# EAGLE library part DSPIC33EP512MU810-X_BG (library dspic33ep)
dsPIC33EP512MU810-X_BG XBGA121 10x10
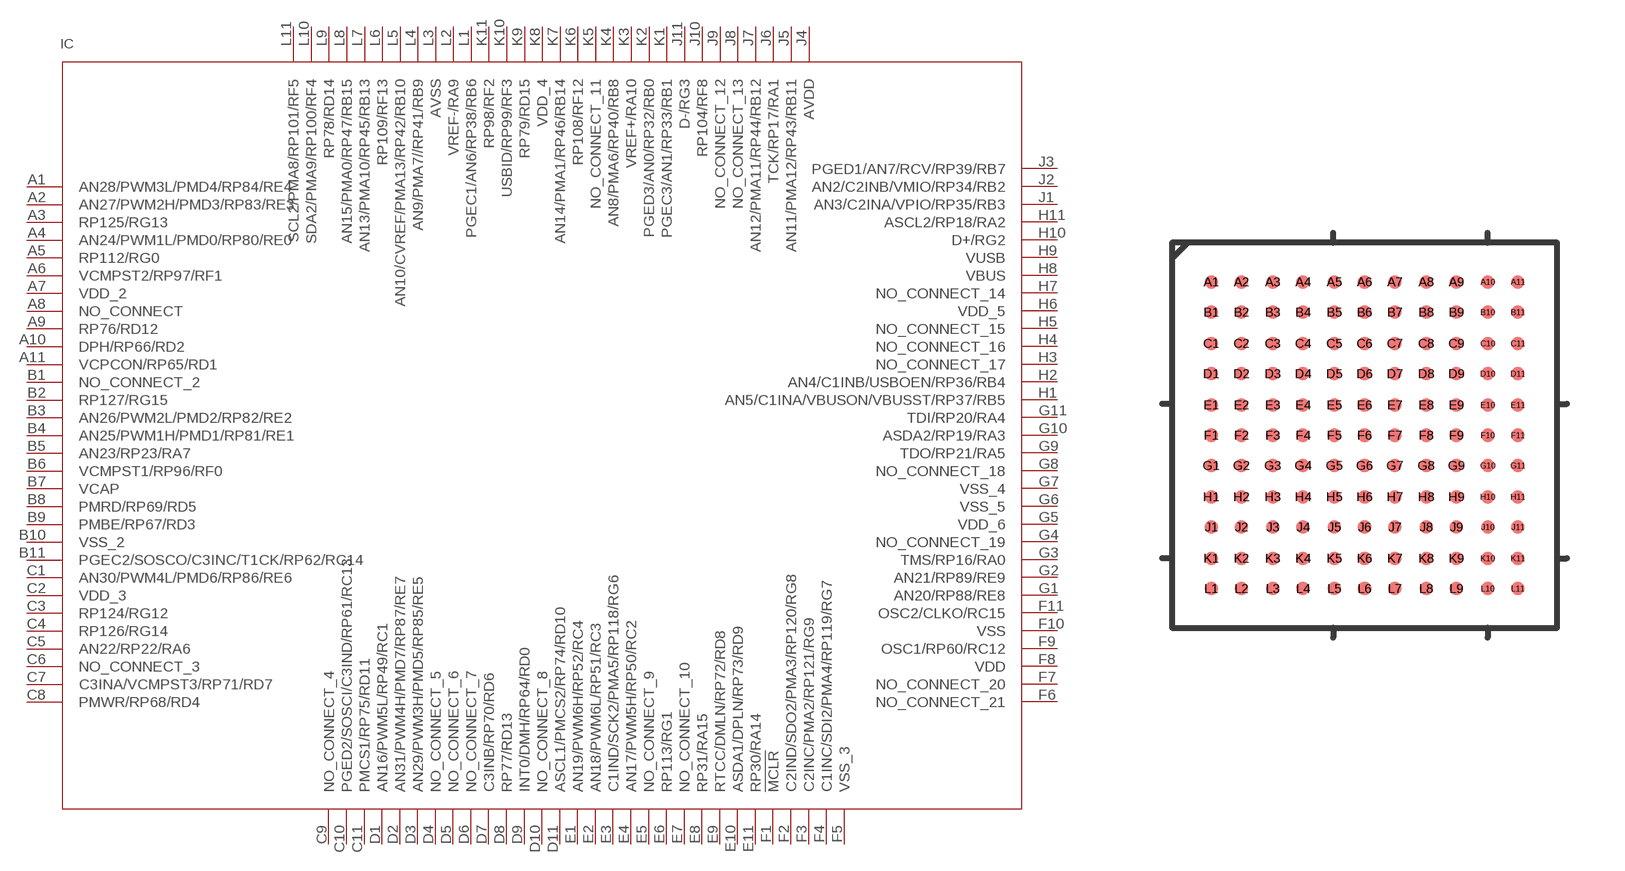
[diagram p7: symbol with the pads of XBGA121_10X10MC; footprint XBGA121_10X10MC]

Designator prefix IC

## DSPIC33EP512MU810-X_BG  [XBGA121_10X10MC]
A1  AN28/PWM3L/PMD4/RP84/RE4  pas
A2  AN27/PWM2H/PMD3/RP83/RE3  pas
A3  RP125/RG13  pas
A4  AN24/PWM1L/PMD0/RP80/RE0  pas
A5  RP112/RG0  pas
A6  VCMPST2/RP97/RF1  pas
A7  VDD_2  pwr
A8  NO_CONNECT  nc
A9  RP76/RD12  pas
A10  DPH/RP66/RD2  pas
A11  VCPCON/RP65/RD1  pas
B1  NO_CONNECT_2  nc
B2  RP127/RG15  pas
B3  AN26/PWM2L/PMD2/RP82/RE2  pas
B4  AN25/PWM1H/PMD1/RP81/RE1  pas
B5  AN23/RP23/RA7  pas
B6  VCMPST1/RP96/RF0  pas
B7  VCAP  pwr
B8  PMRD/RP69/RD5  pas
B9  PMBE/RP67/RD3  pas
B10  VSS_2  pwr
B11  PGEC2/SOSCO/C3INC/T1CK/RP62/RC14  pas
C1  AN30/PWM4L/PMD6/RP86/RE6  pas
C2  VDD_3  pwr
C3  RP124/RG12  pas
C4  RP126/RG14  pas
C5  AN22/RP22/RA6  pas
C6  NO_CONNECT_3  nc
C7  C3INA/VCMPST3/RP71/RD7  pas
C8  PMWR/RP68/RD4  pas
C9  NO_CONNECT_4  nc
C10  PGED2/SOSCI/C3IND/RP61/RC13  pas
C11  PMCS1/RP75/RD11  pas
D1  AN16/PWM5L/RP49/RC1  pas
D2  AN31/PWM4H/PMD7/RP87/RE7  pas
D3  AN29/PWM3H/PMD5/RP85/RE5  pas
D4  NO_CONNECT_5  nc
D5  NO_CONNECT_6  nc
D6  NO_CONNECT_7  nc
D7  C3INB/RP70/RD6  pas
D8  RP77/RD13  pas
D9  INT0/DMH/RP64/RD0  pas
D10  NO_CONNECT_8  nc
D11  ASCL1/PMCS2/RP74/RD10  pas
E1  AN19/PWM6H/RP52/RC4  pas
E2  AN18/PWM6L/RP51/RC3  pas
E3  C1IND/SCK2/PMA5/RP118/RG6  pas
E4  AN17/PWM5H/RP50/RC2  pas
E5  NO_CONNECT_9  nc
E6  RP113/RG1  pas
E7  NO_CONNECT_10  nc
E8  RP31/RA15  pas
E9  RTCC/DMLN/RP72/RD8  pas
E10  ASDA1/DPLN/RP73/RD9  pas
E11  RP30/RA14  pas
F1  !MCLR  in
F2  C2IND/SDO2/PMA3/RP120/RG8  pas
F3  C2INC/PMA2/RP121/RG9  pas
F4  C1INC/SDI2/PMA4/RP119/RG7  pas
F5  VSS_3  pwr
F6  NO_CONNECT_21  nc
F7  NO_CONNECT_20  nc
F8  VDD  pwr
F9  OSC1/RP60/RC12  pas
F10  VSS  pwr
F11  OSC2/CLKO/RC15  pas
G1  AN20/RP88/RE8  pas
G2  AN21/RP89/RE9  pas
G3  TMS/RP16/RA0  pas
G4  NO_CONNECT_19  nc
G5  VDD_6  pwr
G6  VSS_5  pwr
G7  VSS_4  pwr
G8  NO_CONNECT_18  nc
G9  TDO/RP21/RA5  pas
G10  ASDA2/RP19/RA3  pas
G11  TDI/RP20/RA4  pas
H1  AN5/C1INA/VBUSON/VBUSST/RP37/RB5  pas
H2  AN4/C1INB/USBOEN/RP36/RB4  pas
H3  NO_CONNECT_17  nc
H4  NO_CONNECT_16  nc
H5  NO_CONNECT_15  nc
H6  VDD_5  pwr
H7  NO_CONNECT_14  nc
H8  VBUS  pwr
H9  VUSB  pwr
H10  D+/RG2  pas
H11  ASCL2/RP18/RA2  pas
J1  AN3/C2INA/VPIO/RP35/RB3  pas
J2  AN2/C2INB/VMIO/RP34/RB2  pas
J3  PGED1/AN7/RCV/RP39/RB7  pas
J4  AVDD  pwr
J5  AN11/PMA12/RP43/RB11  pas
J6  TCK/RP17/RA1  pas
J7  AN12/PMA11/RP44/RB12  pas
J8  NO_CONNECT_13  nc
J9  NO_CONNECT_12  nc
J10  RP104/RF8  pas
J11  D-/RG3  pas
K1  PGEC3/AN1/RP33/RB1  pas
K2  PGED3/AN0/RP32/RB0  pas
K3  VREF+/RA10  pas
K4  AN8/PMA6/RP40/RB8  pas
K5  NO_CONNECT_11  nc
K6  RP108/RF12  pas
K7  AN14/PMA1/RP46/RB14  pas
K8  VDD_4  pwr
K9  RP79/RD15  pas
K10  USBID/RP99/RF3  pas
K11  RP98/RF2  pas
L1  PGEC1/AN6/RP38/RB6  pas
L2  VREF-/RA9  pas
L3  AVSS  pwr
L4  AN9/PMA7//RP41/RB9  pas
L5  AN10/CVREF/PMA13/RP42/RB10  pas
L6  RP109/RF13  pas
L7  AN13/PMA10/RP45/RB13  pas
L8  AN15/PMA0/RP47/RB15  pas
L9  RP78/RD14  pas
L10  SDA2/PMA9/RP100/RF4  pas
L11  SCL2/PMA8/RP101/RF5  pas

## Footprint XBGA121_10X10MC (pad centres in mm)
XBGA121 10X10
smd 0.356 x 0.356: A1 -3.988,3.988; A2 -3.2,3.988; A3 -2.388,3.988; A4 -1.6,3.988; A5 -0.787,3.988; A6 0,3.988; A7 0.787,3.988; A8 1.6,3.988; A9 2.388,3.988; A10 3.2,3.988; A11 3.988,3.988; B1 -3.988,3.2; B2 -3.2,3.2; B3 -2.388,3.2; B4 -1.6,3.2; B5 -0.787,3.2; B6 0,3.2; B7 0.787,3.2; B8 1.6,3.2; B9 2.388,3.2; B10 3.2,3.2; B11 3.988,3.2; C1 -3.988,2.388; C2 -3.2,2.388; C3 -2.388,2.388; C4 -1.6,2.388; C5 -0.787,2.388; C6 0,2.388; C7 0.787,2.388; C8 1.6,2.388; C9 2.388,2.388; C10 3.2,2.388; C11 3.988,2.388; D1 -3.988,1.6; D2 -3.2,1.6; D3 -2.388,1.6; D4 -1.6,1.6; D5 -0.787,1.6; D6 0,1.6; D7 0.787,1.6; D8 1.6,1.6; D9 2.388,1.6; D10 3.2,1.6; D11 3.988,1.6; E1 -3.988,0.787; E2 -3.2,0.787; E3 -2.388,0.787; E4 -1.6,0.787; E5 -0.787,0.787; E6 0,0.787; E7 0.787,0.787; E8 1.6,0.787; E9 2.388,0.787; E10 3.2,0.787; E11 3.988,0.787; F1 -3.988,0; F2 -3.2,0; F3 -2.388,0; F4 -1.6,0; F5 -0.787,0; F6 0,0; F7 0.787,0; F8 1.6,0; F9 2.388,0; F10 3.2,0; F11 3.988,0; G1 -3.988,-0.787; G2 -3.2,-0.787; G3 -2.388,-0.787; G4 -1.6,-0.787; G5 -0.787,-0.787; G6 0,-0.787; G7 0.787,-0.787; G8 1.6,-0.787; G9 2.388,-0.787; G10 3.2,-0.787; G11 3.988,-0.787; H1 -3.988,-1.6; H2 -3.2,-1.6; H3 -2.388,-1.6; H4 -1.6,-1.6; H5 -0.787,-1.6; H6 0,-1.6; H7 0.787,-1.6; H8 1.6,-1.6; H9 2.388,-1.6; H10 3.2,-1.6; H11 3.988,-1.6; J1 -3.988,-2.388; J2 -3.2,-2.388; J3 -2.388,-2.388; J4 -1.6,-2.388; J5 -0.787,-2.388; J6 0,-2.388; J7 0.787,-2.388; J8 1.6,-2.388; J9 2.388,-2.388; J10 3.2,-2.388; J11 3.988,-2.388; K1 -3.988,-3.2; K2 -3.2,-3.2; K3 -2.388,-3.2; K4 -1.6,-3.2; K5 -0.787,-3.2; K6 0,-3.2; K7 0.787,-3.2; K8 1.6,-3.2; K9 2.388,-3.2; K10 3.2,-3.2; K11 3.988,-3.2; L1 -3.988,-3.988; L2 -3.2,-3.988; L3 -2.388,-3.988; L4 -1.6,-3.988; L5 -0.787,-3.988; L6 0,-3.988; L7 0.787,-3.988; L8 1.6,-3.988; L9 2.388,-3.988; L10 3.2,-3.988; L11 3.988,-3.988